# Altium schematic symbol library Communication.SchLib: 2 symbols
Pins are listed as number, name and electrical type; pins without a type are passive.

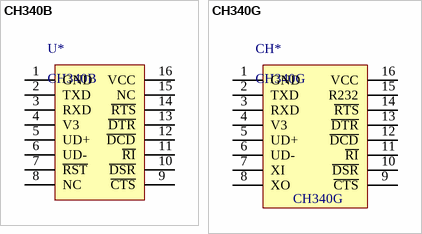
[diagram p0: symbols CH340B to CH340G]

## CH340B
designator U*
usb to uart
footprint SOP16 (CH340G)
pins: 1 GND (oc), 2 TXD (oc), 3 RXD (oc), 4 V3 (power), 5 UD+ (oc), 6 UD- (oc), 7 ~{RST} (oc), 8 NC, 9 ~{CTS} (oc), 10 ~{DSR} (oc), 11 ~{RI} (oc), 12 ~{DCD} (oc), 13 ~{DTR} (oc), 14 ~{RTS} (oc), 15 NC (oc), 16 VCC (power)

## CH340G
designator CH*
footprint SOP16 (CH340G)
pins: 1 GND, 2 TXD, 3 RXD, 4 V3, 5 UD+, 6 UD-, 7 XI, 8 XO, 9 ~{CTS}, 10 ~{DSR}, 11 ~{RI}, 12 ~{DCD}, 13 ~{DTR}, 14 ~{RTS}, 15 R232, 16 VCC